# EAGLE library part AP2511AMP-13 (library SamacSys_Parts)
Power Switch ICs - Power Distribution 2.0A Sgl-Ch Curr Lim 2.5A 70mOhm Low Source: Datasheet <https://www.diodes.com/assets/Datasheets/AP25x1A.pdf>
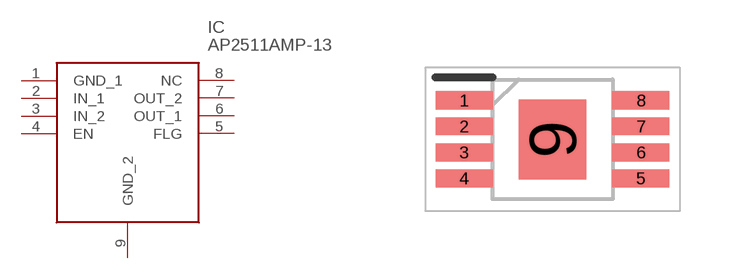
[diagram p163: symbol with the pads of SOP65P490X110-9N; footprint SOP65P490X110-9N]

Designator prefix IC

## AP2511AMP-13 (DESCRIPTION: Power Switch ICs - Power Distribution 2.0A Sgl-Ch Curr Lim 2.5A 70mOhm Low; HEIGHT: 1.1mm; MANUFACTURER_NAME: Diodes Inc.; MANUFACTURER_PART_NUMBER: AP2511AMP-13; MOUSER_PART_NUMBER: 621-AP2511AMP-13; MOUSER_PRICE-STOCK: https://www.mouser.co.uk/ProductDetail/Diodes-Incorporated/AP2511AMP-13?qs=T3odUMJxAi%2FJwhWkxKt7yg%3D%3D)  [SOP65P490X110-9N]
1  GND_1
2  IN_1
3  IN_2
4  EN
5  FLG
6  OUT_1
7  OUT_2
8  NC  nc
9  GND_2

## Footprint SOP65P490X110-9N (pad centres in mm)
AP2511AMP-13
smd 1.425 x 0.45: 1 -2.212,0.975; 2 -2.212,0.325; 3 -2.212,-0.325; 4 -2.212,-0.975; 5 2.212,-0.975; 6 2.212,-0.325; 7 2.212,0.325; 8 2.212,0.975
smd 1.7 x 2: 9 0,0